# Altium schematic symbol library SCH - MCU - ESP32 - ESP-32S.SchLib: 1 symbol
Pins are listed as number, name and electrical type; pins without a type are passive.

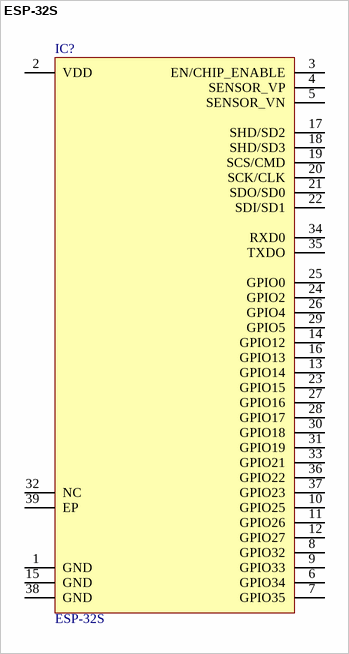
[diagram p0: symbol ESP-32S]

## ESP-32S
designator IC?
WiFi-BT-BLE MCU module; Manufacturer_Name: Ai-Thinker; Geometry.Height: 2.9mm; Manufacturer_Part_Number: ESP-32s; Mouser Part Number: *; Mouser Price/Stock: *; Arrow Part Number: *; Arrow Price/Stock: *; Datasheet Link: http://en.ai-thinker.com/esp32/spec/esp32s
footprint ESP32s
pins: 1 GND, 2 VDD, 3 EN/CHIP_ENABLE, 4 SENSOR_VP "GPI36,SENSOR_VP,ADC_H,ADC1_CH0,RTC_GPIO0", 5 SENSOR_VN "GPI39,SENSOR_VN,ADC1_CH3,ADC_H,RTC_GPIO3", 6 GPIO34 "GPI34,ADC1_CH6,RTC_GPIO4", 7 GPIO35 "GPI35,ADC1_CH7,RTC_GPIO5", 8 GPIO32 "GPIO32,XTAL_32K_P(32.768kHz crystal oscillator input), ADC1_CH4, TOUCH9,RTC_GPIO9", 9 GPIO33 "GPIO33,XTAL_32K_N (32.768kHz crystal oscillator output), ADC1_CH5, TOUCH8,RTC_GPIO8", 10 GPIO25 "GPIO25,DAC_1,ADC2_CH8,RTC_GPIO6,EMAC_RXD0", 11 GPIO26 "GPIO26,DAC_2,ADC2_CH9,RTC_GPIO7,EMAC_RXD1", 12 GPIO27 "GPIO27,ADC2_CH7,TOUCH7,RTC_GPIO17,EMAC_RX_DV", 13 GPIO14 "GPIO14,ADC2_CH6,TOUCH6,RTC_GPIO16,MTMS,HSPICLK, HS2_CLK, SD_CLK,EMAC_TXD2", 14 GPIO12 "GPIO12,ADC2_CH5,TOUCH5,RTC_GPIO15,MTDI,HSPIQ, HS2_DATA2, SD_DATA2,EMAC_TXD3", 15 GND, 16 GPIO13 "GPIO13,ADC2_CH4,TOUCH4,RTC_GPIO14,MTCK,HSPID, HS2_DATA3, SD_DATA3,EMAC_RX_ER", 17 SHD/SD2 "GPIO9,SD_DATA2,SPIHD,HS1_DATA2,U1RXD", 18 SHD/SD3 "GPIO10,SD_DATA3,SPIWP,HS1_DATA3,U1TXD", 19 SCS/CMD "GPIO11,SD_CMD,SPICS0,HS1_CMD,U1RTS", 20 SCK/CLK "GPIO6,SD_CLK,SPICLK,HS1_CLK,U1CTS", 21 SDO/SD0 "GPIO7,SD_DATA0,SPIQ,HS1_DATA0,U2RTS", 22 SDI/SD1 "GPIO8,SD_DATA1,SPID,HS1_DATA1,U2CTS", 23 GPIO15 "GPIO15,ADC2_CH3,TOUCH3,MTDO,HSPICS0,RTC_GPIO13, HS2_CMD, SD_CMD,EMAC_RXD3", 24 GPIO2 "GPIO2,ADC2_CH2,TOUCH2,RTC_GPIO12,HSPIWP,HS2_DATA0, SD_DATA0", 25 GPIO0 "GPIO0,ADC2_CH1,TOUCH1,RTC_GPIO11,CLK_OUT1, EMAC_TX_CLK", 26 GPIO4 "GPIO4,ADC2_CH0,TOUCH0,RTC_GPIO10,HSPIHD,HS2_DATA1,SD_DATA1,EMAC_TX_ER", 27 GPIO16 "GPIO16,HS1_DATA4,U2RXD,EMAC_CLK_OUT", 28 GPIO17 "GPIO17,HS1_DATA5,U2TXD,EMAC_CLK_OUT_180", 29 GPIO5 "GPIO5/VSPICS0/HS1_DATA6/EMAC_RX_CLK", 30 GPIO18 "GPIO18,VSPICLK,HS1_DATA7", 31 GPIO19 "GPIO19,VSPIQ,U0CTS,EMAC_TXD0", 32 NC, 33 GPIO21 "GPIO21,VSPIHD,EMAC_TX_EN", 34 RXD0 "GPIO3,U0RXD,CLK_OUT2", 35 TXDO "GPIO1,U0TXD,CLK_OUT3,EMAC_RXD2", 36 GPIO22 "GPIO22,VSPIWP,U0RTS,EMAC_TXD1", 37 GPIO23 "GPIO23,VSPID,HS1_STROBE", 38 GND, 39 EP